# Altium schematic symbol library misc1.SchLib: 25 symbols
Pins are listed as number, name and electrical type; pins without a type are passive.

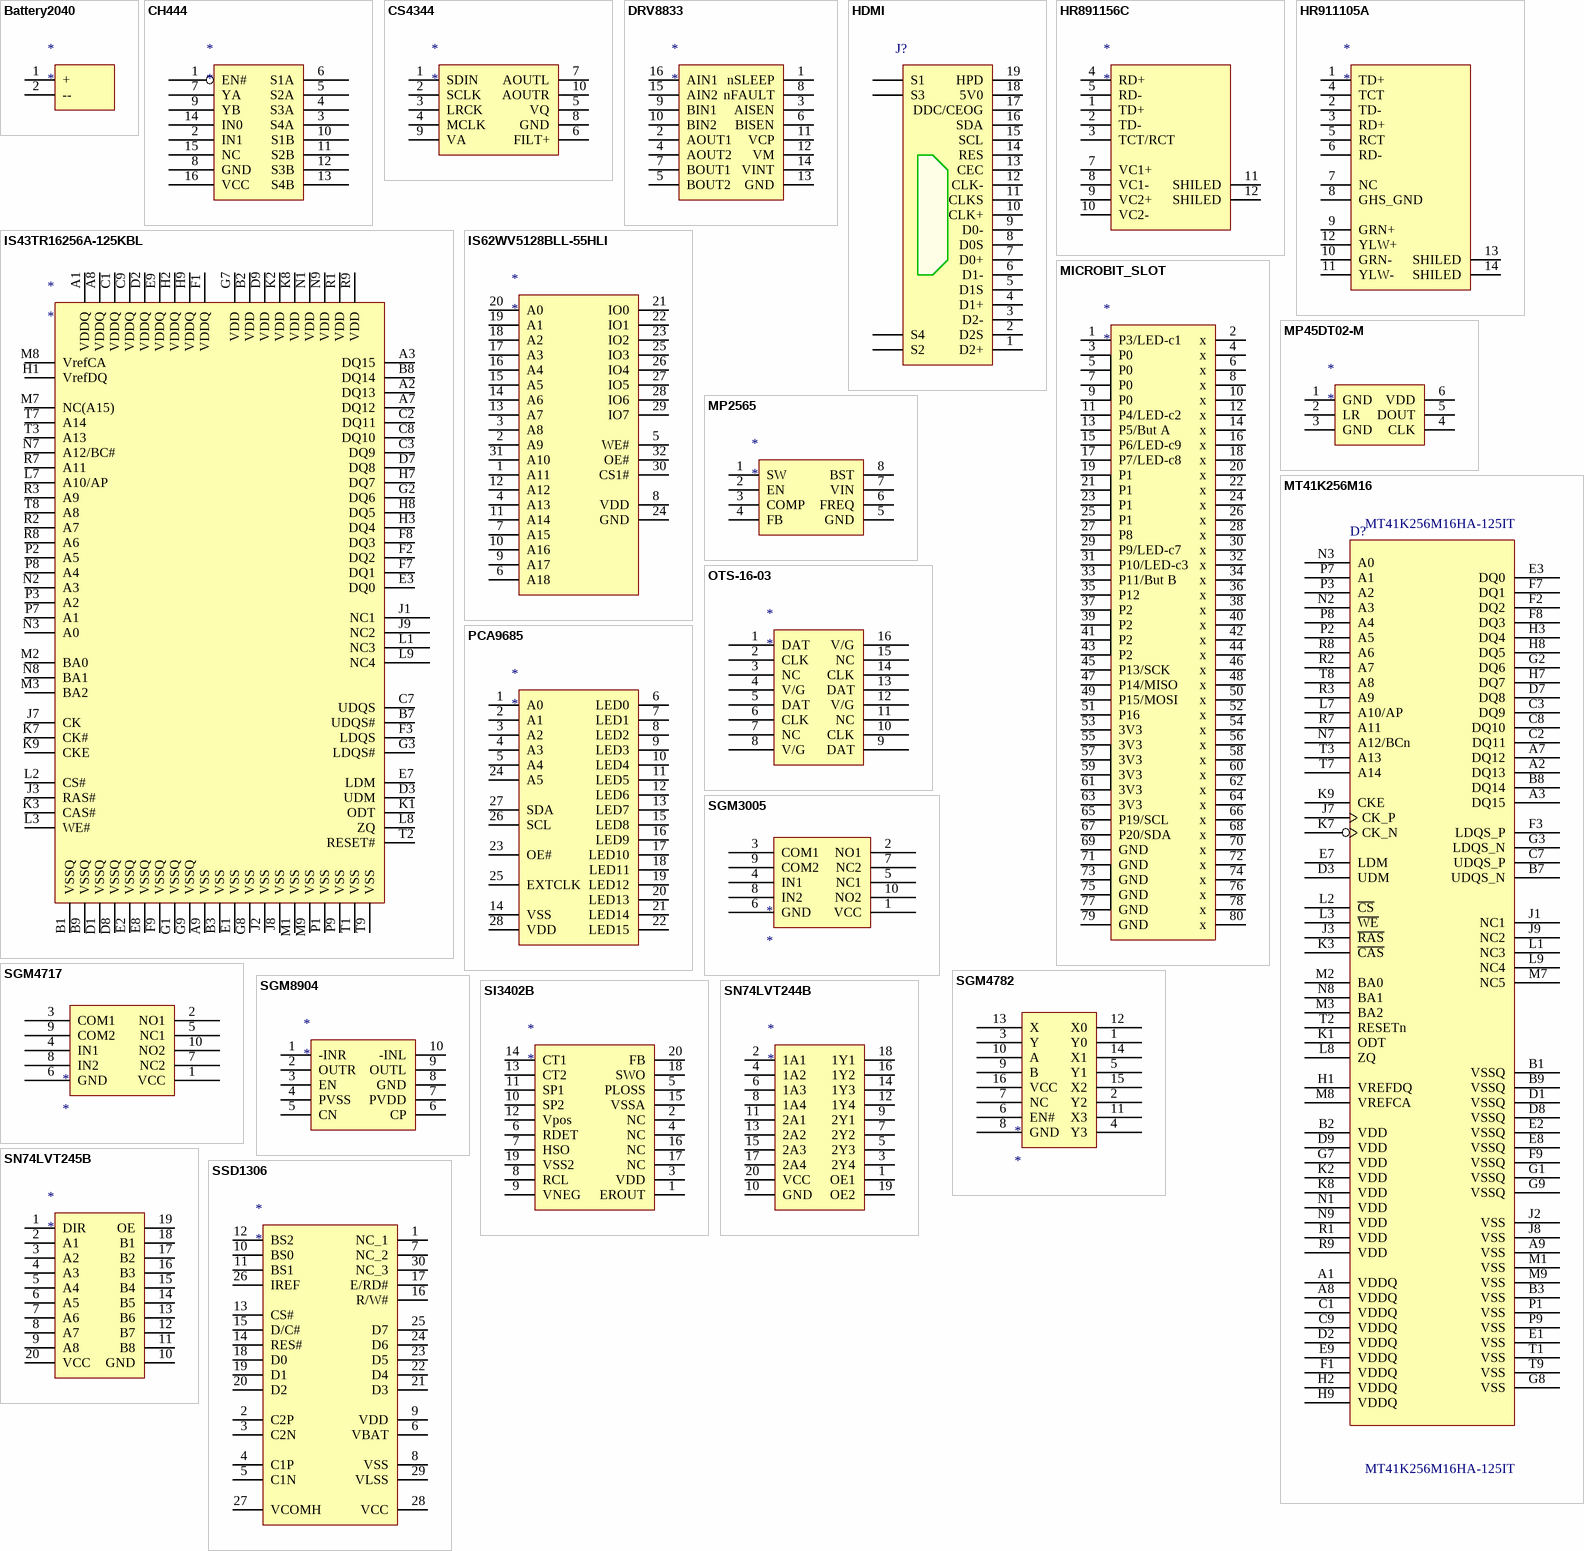
[diagram p0: symbols Battery2040 to SSD1306]

## Battery2040
designator *
2x4cm Li-bat
footprint BAT-2040
pins: 1 +, 2 --

## CH444
designator *
pins: 1 EN#, 2 IN1, 3 S4A, 4 S3A, 5 S2A, 6 S1A, 7 YA, 8 GND, 9 YB, 10 S1B, 11 S2B, 12 S3B, 13 S4B, 14 IN0, 15 NC, 16 VCC

## CS4344
designator *
TSSOP-10  可以用MSOP-10
footprint MSOP-10
pins: 1 SDIN, 2 SCLK, 3 LRCK, 4 MCLK, 5 VQ, 6 FILT+, 7 AOUTL, 8 GND, 9 VA, 10 AOUTR

## DRV8833
designator *
TSSOP-16
footprint TSSOP-16
pins: 1 nSLEEP, 2 AOUT1, 3 AISEN, 4 AOUT2, 5 BOUT2, 6 BISEN, 7 BOUT1, 8 nFAULT, 9 BIN1, 10 BIN2, 11 VCP, 12 VM, 13 GND, 14 VINT, 15 AIN2, 16 AIN1

## HDMI
designator J?  (value not drawn)
pins: 1 D2+, 2 D2S, 3 D2-, 4 D1+, 5 D1S, 6 D1-, 7 D0+, 8 D0S, 9 D0-, 10 CLK+, 11 CLKS, 12 CLK-, 13 CEC, 14 RES, 15 SCL, 16 SDA, 17 DDC/CEOG, 18 5V0, 19 HPD, ?1 S1, ?2 S2, ?3 S3, ?4 S4

## HR891156C
designator *
with POE
footprint HR891156C (with POE)
pins: 1 TD+, 2 TD-, 3 TCT/RCT, 4 RD+, 5 RD-, 7 VC1+, 8 VC1-, 9 VC2+, 10 VC2-, 11 SHILED, 12 SHILED

## HR911105A
designator *
RG45  HR911105A.pdf
footprint HR911105A
pins: 1 TD+, 2 TD-, 3 RD+, 4 TCT, 5 RCT, 6 RD-, 7 NC, 8 GHS_GND, 9 GRN+, 10 GRN-, 11 YLW-, 12 YLW+, 13 SHILED, 14 SHILED

## IS43TR16256A-125KBL
designator *
与MT41K256M16HA-125IT完全兼容
footprint BGA96C80P16X9_1400X900X120 (BGA, 96-Leads, Body 14.0x9.0mm,  Pitch 0.80mm   ywy  7045扳子拷贝 不知道是否适用于IS43 尺寸)
pins: A1 VDDQ, A2 DQ13, A3 DQ15, A7 DQ12, A8 VDDQ, A9 VSS, B1 VSSQ, B2 VDD, B3 VSS, B7 UDQS#, B8 DQ14, B9 VSSQ, C1 VDDQ, C2 DQ11, C3 DQ9, C7 UDQS, C8 DQ10, C9 VDDQ, D1 VSSQ, D2 VDDQ, D3 UDM, D7 DQ8, D8 VSSQ, D9 VDD, E1 VSS, E2 VSSQ, E3 DQ0, E7 LDM, E8 VSSQ, E9 VDDQ, F1 VDDQ, F2 DQ2, F3 LDQS, F7 DQ1, F8 DQ3, F9 VSSQ, G1 VSSQ, G2 DQ6, G3 LDQS#, G7 VDD, G8 VSS, G9 VSSQ, H1 VrefDQ, H2 VDDQ, H3 DQ4, H7 DQ7, H8 DQ5, H9 VDDQ, J1 NC1, J2 VSS, J3 RAS#, J7 CK, J8 VSS, J9 NC2, K1 ODT, K2 VDD, K3 CAS#, K7 CK#, K8 VDD, K9 CKE, L1 NC3, L2 CS#, L3 WE#, L7 A10/AP, L8 ZQ, L9 NC4, M1 VSS, M2 BA0, M3 BA2, M7 NC(A15), M8 VrefCA, M9 VSS, N1 VDD, N2 A3, N3 A0, N7 A12/BC#, N8 BA1, N9 VDD, P1 VSS, P2 A5, P3 A2, P7 A1, P8 A4, P9 VSS, R1 VDD, R2 A7, R3 A9, R7 A11, R8 A6, R9 VDD, T1 VSS, T2 RESET#, T3 A13, T7 A14, T8 A8, T9 VSS

## IS62WV5128BLL-55HLI
designator *
footprint TSOP32_8X13.4
pins: 1 A11, 2 A9, 3 A8, 4 A13, 5 WE#, 6 A18, 7 A15, 8 VDD, 9 A17, 10 A16, 11 A14, 12 A12, 13 A7, 14 A6, 15 A5, 16 A4, 17 A3, 18 A2, 19 A1, 20 A0, 21 IO0, 22 IO1, 23 IO2, 24 GND, 25 IO3, 26 IO4, 27 IO5, 28 IO6, 29 IO7, 30 CS1#, 31 A10, 32 OE#

## MICROBIT_SLOT
designator *
footprint microbit_slot
pins: 1 P3/LED-c1, 2 x, 3 P0, 4 x, 5 P0, 6 x, 7 P0, 8 x, 9 P0, 10 x, 11 P4/LED-c2, 12 x, 13 P5/But A, 14 x, 15 P6/LED-c9, 16 x, 17 P7/LED-c8, 18 x, 19 P1, 20 x, 21 P1, 22 x, 23 P1, 24 x, 25 P1, 26 x, 27 P8, 28 x, 29 P9/LED-c7, 30 x, 31 P10/LED-c3, 32 x, 33 P11/But B, 34 x, 35 P12, 36 x, 37 P2, 38 x, 39 P2, 40 x, 41 P2, 42 x, 43 P2, 44 x, 45 P13/SCK, 46 x, 47 P14/MISO, 48 x, 49 P15/MOSI, 50 x, 51 P16, 52 x, 53 3V3, 54 x, 55 3V3, 56 x, 57 3V3, 58 x, 59 3V3, 60 x, 61 3V3, 62 x, 63 3V3, 64 x, 65 P19/SCL, 66 x, 67 P20/SDA, 68 x, 69 GND, 70 x, 71 GND, 72 x, 73 GND, 74 x, 75 GND, 76 x, 77 GND, 78 x, 79 GND, 80 x

## MP45DT02-M
designator *
digital microphone
footprint MP45DT02-M
footprint MP45DT02-M-1 (用于手焊)
pins: 1 GND, 2 LR, 3 GND, 4 CLK, 5 DOUT, 6 VDD

## MP2565
designator *
50V  Step-Down Converter
footprint SOIC8E
pins: 1 SW, 2 EN, 3 COMP, 4 FB, 5 GND, 6 FREQ, 7 VIN, 8 BST

## MT41K256M16
designator D?, comment MT41K256M16HA-125IT
Part_number: MT41K256M16HA-125IT
footprint BGA96C80P16X9_1400X900X120 (BGA, 96-Leads, Body 14.0x9.0mm,  Pitch 0.80mm)
pins: A1 VDDQ, A2 DQ13, A3 DQ15, A7 DQ12, A8 VDDQ, A9 VSS, B1 VSSQ, B2 VDD, B3 VSS, B7 UDQS_N, B8 DQ14, B9 VSSQ, C1 VDDQ, C2 DQ11, C3 DQ9, C7 UDQS_P, C8 DQ10, C9 VDDQ, D1 VSSQ, D2 VDDQ, D3 UDM, D7 DQ8, D8 VSSQ, D9 VDD, E1 VSS, E2 VSSQ, E3 DQ0, E7 LDM, E8 VSSQ, E9 VDDQ, F1 VDDQ, F2 DQ2, F3 LDQS_P, F7 DQ1, F8 DQ3, F9 VSSQ, G1 VSSQ, G2 DQ6, G3 LDQS_N, G7 VDD, G8 VSS, G9 VSSQ, H1 VREFDQ, H2 VDDQ, H3 DQ4, H7 DQ7, H8 DQ5, H9 VDDQ, J1 NC1, J2 VSS, J3 ~{RAS}, J7 CK_P, J8 VSS, J9 NC2, K1 ODT, K2 VDD, K3 ~{CAS}, K7 CK_N, K8 VDD, K9 CKE, L1 NC3, L2 ~{CS}, L3 ~{WE}, L7 A10/AP, L8 ZQ, L9 NC4, M1 VSS, M2 BA0, M3 BA2, M7 NC5, M8 VREFCA, M9 VSS, N1 VDD, N2 A3, N3 A0, N7 A12/BCn, N8 BA1, N9 VDD, P1 VSS, P2 A5, P3 A2, P7 A1, P8 A4, P9 VSS, R1 VDD, R2 A7, R3 A9, R7 A11, R8 A6, R9 VDD, T1 VSS, T2 RESETn, T3 A13, T7 A14, T8 A8, T9 VSS

## OTS-16-03
designator *
pins: 1 DAT, 2 CLK, 3 NC, 4 V/G, 5 DAT, 6 CLK, 7 NC, 8 V/G, 9 DAT, 10 CLK, 11 NC, 12 V/G, 13 DAT, 14 CLK, 15 NC, 16 V/G

## PCA9685
designator *
footprint TSSOP-28
pins: 1 A0, 2 A1, 3 A2, 4 A3, 5 A4, 6 LED0, 7 LED1, 8 LED2, 9 LED3, 10 LED4, 11 LED5, 12 LED6, 13 LED7, 14 VSS, 15 LED8, 16 LED9, 17 LED10, 18 LED11, 19 LED12, 20 LED13, 21 LED14, 22 LED15, 23 OE#, 24 A5, 25 EXTCLK, 26 SCL, 27 SDA, 28 VDD

## SGM3005
designator *
pins: 1 VCC, 2 NO1, 3 COM1, 4 IN1, 5 NC1, 6 GND, 7 NC2, 8 IN2, 9 COM2, 10 NO2

## SGM4717
designator *
pins: 1 VCC, 2 NO1, 3 COM1, 4 IN1, 5 NC1, 6 GND, 7 NC2, 8 IN2, 9 COM2, 10 NO2

## SGM4782
designator *
pins: 1 Y0, 2 Y2, 3 Y, 4 Y3, 5 Y1, 6 EN#, 7 NC, 8 GND, 9 B, 10 A, 11 X3, 12 X0, 13 X, 14 X1, 15 X2, 16 VCC

## SGM8904
designator *
footprint MSOP-10
pins: 1 -INR, 2 OUTR, 3 EN, 4 PVSS, 5 CN, 6 CP, 7 PVDD, 8 GND, 9 OUTL, 10 -INL

## SI3402B
designator *
PoE with DC-DC
footprint SI3402B
pins: 1 EROUT, 2 NC, 3 VDD, 4 NC, 5 PLOSS, 6 RDET, 7 HSO, 8 RCL, 9 VNEG, 10 SP2, 11 SP1, 12 Vpos, 13 CT2, 14 CT1, 15 VSSA, 16 NC, 17 NC, 18 SWO, 19 VSS2, 20 FB

## SN74LVT244B
designator *
pins: 1 OE1, 2 1A1, 3 2Y4, 4 1A2, 5 2Y3, 6 1A3, 7 2Y2, 8 1A4, 9 2Y1, 10 GND, 11 2A1, 12 1Y4, 13 2A2, 14 1Y3, 15 2A3, 16 1Y2, 17 2A4, 18 1Y1, 19 OE2, 20 VCC

## SN74LVT245B
designator *
pins: 1 DIR, 2 A1, 3 A2, 4 A3, 5 A4, 6 A5, 7 A6, 8 A7, 9 A8, 10 GND, 11 B8, 12 B7, 13 B6, 14 B5, 15 B4, 16 B3, 17 B2, 18 B1, 19 OE, 20 VCC

## SSD1306
designator *
footprint OLED-0.96-30
pins: 1 NC_1, 2 C2P, 3 C2N, 4 C1P, 5 C1N, 6 VBAT, 7 NC_2, 8 VSS, 9 VDD, 10 BS0, 11 BS1, 12 BS2, 13 CS#, 14 RES#, 15 D/C#, 16 R/W#, 17 E/RD#, 18 D0, 19 D1, 20 D2, 21 D3, 22 D4, 23 D5, 24 D6, 25 D7, 26 IREF, 27 VCOMH, 28 VCC, 29 VLSS, 30 NC_3

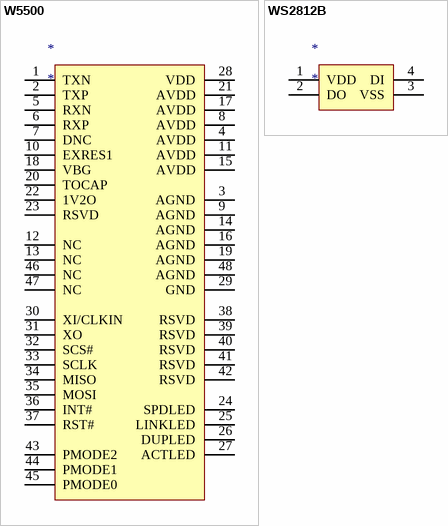
[diagram p1: symbols W5500 to WS2812B]

## W5500
designator *
TCP
footprint LQFP48-7x7 (从mcu中拷贝 用于w5500)
pins: 1 TXN, 2 TXP, 3 AGND, 4 AVDD, 5 RXN, 6 RXP, 7 DNC, 8 AVDD, 9 AGND, 10 EXRES1, 11 AVDD, 12 NC, 13 NC, 14 AGND, 15 AVDD, 16 AGND, 17 AVDD, 18 VBG, 19 AGND, 20 TOCAP, 21 AVDD, 22 1V2O, 23 RSVD, 24 SPDLED, 25 LINKLED, 26 DUPLED, 27 ACTLED, 28 VDD, 29 GND, 30 XI/CLKIN, 31 XO, 32 SCS#, 33 SCLK, 34 MISO, 35 MOSI, 36 INT#, 37 RST#, 38 RSVD, 39 RSVD, 40 RSVD, 41 RSVD, 42 RSVD, 43 PMODE2, 44 PMODE1, 45 PMODE0, 46 NC, 47 NC, 48 AGND

## WS2812B
designator *
RGB LED
footprint WS2812B
pins: 1 VDD, 2 DO, 3 VSS, 4 DI